# Altium schematic symbol library 39301140.SchLib: 2 symbols
Pins are listed as number, name and electrical type; pins without a type are passive.

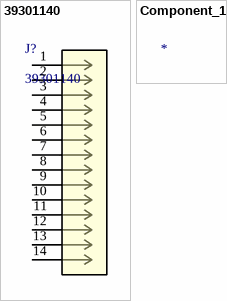
[diagram p0: symbols 39301140 to Component_1]

## 39301140
designator J?
No Description Available; Mfr_Name: Molex Connector Corporation; Copyright: Copyright (C) 2022 Ultra Librarian. All rights reserved.; Manufacturer_Part_Number: 39301140; RefDes: RefDes; Type: DEV
footprint CON_39301140
pins: 1, 2, 3, 4, 5, 6, 7, 8, 9, 10, 11, 12, 13, 14

## Component_1
designator *  (value not drawn)